# Altium footprint library Rich Footprints.PcbLib: 155 footprints (part 5 of 10)
Each footprint in its own frame and in the unit in brackets; x right, y up, seen from the top. Pads: shape width x height; smd on the part's side, far side on the other; paste and mask are expansions set on the pad; w line width, h text height; cw(c..) or ccw(c..) is an arc to the next point about the centre after c.
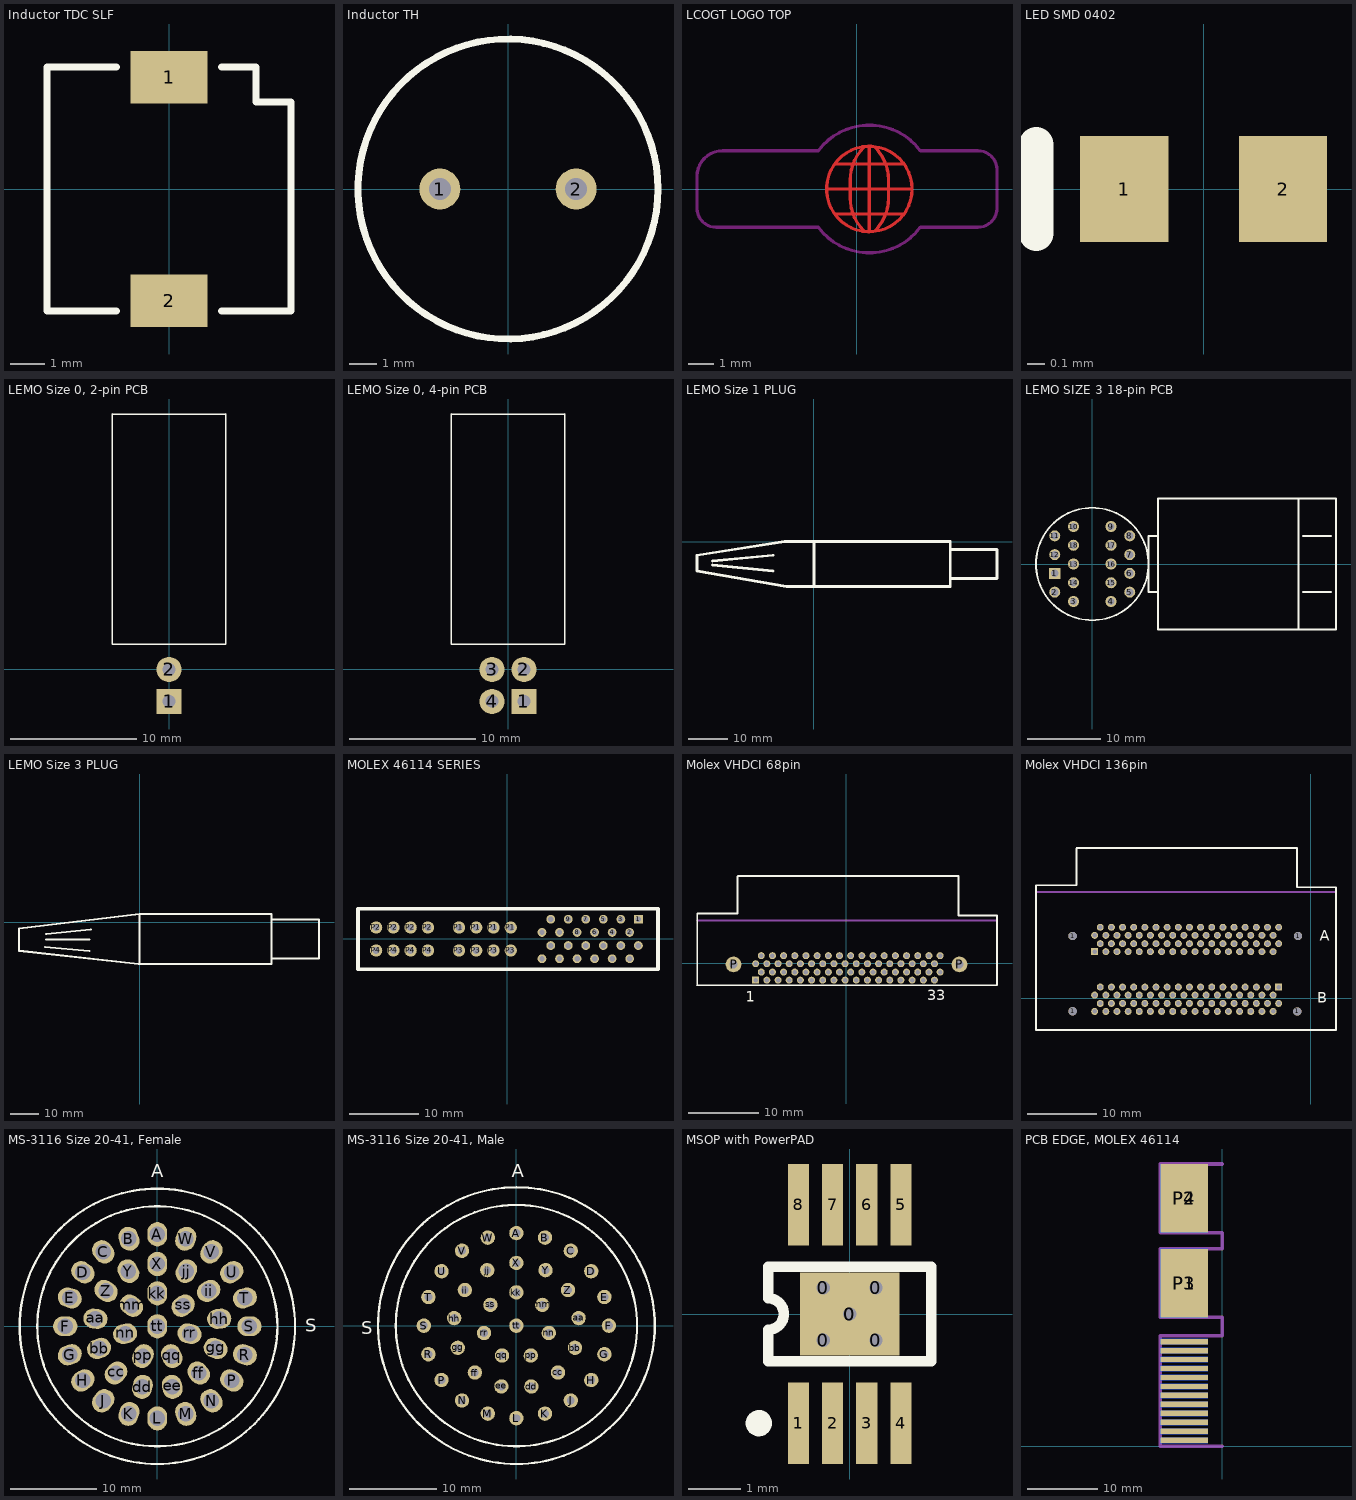
[diagram p4: the footprints below, top view; thin cyan lines are the x and y axes]

## Inductor TDC SLF [mm] "SLF series"
pads (2):
  rect 2.2x1.5 smd: 1(0,3.2) 2(0,-3.2)
Top Overlay:
  lines w0.2: -1.5,-3.5 -3.5,-3.5 -3.5,3.5 -1.5,3.5 ; 1.5,-3.5 3.5,-3.5 3.5,0 3.5,2.5 2.5,2.5 2.5,3.5 1.5,3.5

## Inductor TH [mm] "11.2 mm DIA, 5 mm lead spacing"
pads (2):
  round 1.5 hole 0.8: 1(-2.5,0) 2(2.5,0)
Top Overlay:
  circle w0.254: c0,0 r5.504

## LCOGT LOGO TOP [mm]
Top Layer:
  circle w0.127: c0.508,0 r1.702
  lines w0.127: -1.194,0 2.21,0 ; -0.864,-0.991 1.88,-0.991 ; -0.864,0.991 1.88,0.991 ; 0.279,-1.651 cw(c1.567,-0.363) -0.254,-0.363 -0.254,0 -0.254,0.363 cw(c1.567,0.363) 0.279,1.651 ; 0.508,-1.702 0.508,1.702 0.584,1.702 ; 0.737,-1.651 ccw(c-0.551,-0.363) 1.27,-0.363 1.27,0 1.27,0.363 ccw(c-0.551,0.363) 0.737,1.651
  text "LCOGT" at -5.639,-0.787 h2.54
  text ".n e t" at 2.286,-0.762 h1.27
Top Layer keep-out:
  lines w0.127: -6.35,-0.762 ccw(c-5.588,-0.762) -5.588,-1.524 -1.524,-1.524 ccw(c0.508,0) 2.54,-1.524 4.826,-1.524 ccw(c4.826,-0.762) 5.588,-0.762 5.588,0.762 ccw(c4.826,0.762) 4.826,1.524 2.54,1.524 ccw(c0.508,0) -1.524,1.524 -5.334,1.524 ccw(c-5.334,0.508) -6.35,0.508 -6.35,0 -6.35,-0.762
Top Solder:
  circle w0.254: c0.508,0 r1.905
  circle w0.762: c0.508,0 r2.185
  lines w0.127: -1.27,-1.524 -5.588,-1.524 cw(c-5.588,-0.762) -6.35,-0.762 -6.35,0.508 cw(c-5.334,0.508) -5.334,1.524 -1.27,1.524 ; -1.168,-1.854 ccw(c0.303,-0.382) 0.303,-2.464 0.508,-2.464 0.713,-2.464 ccw(c0.713,-0.382) 2.184,-1.854 ; -1.168,1.854 cw(c0.303,0.382) 0.303,2.464 0.508,2.464 0.713,2.464 cw(c0.713,0.382) 2.184,1.854 ; 2.286,-1.524 3.048,-1.524 ; 2.286,1.524 3.81,1.524 ; 2.997,-1.524 4.826,-1.524 ccw(c4.826,-0.762) 5.588,-0.762 5.588,0.762 ccw(c4.826,0.762) 4.826,1.524 3.766,1.524
  lines w1.016: -2.54,-0.508 -5.08,-0.508 -5.08,0.254 -1.778,0.254 -1.778,-1.016 -5.588,-1.016 cw(c-5.588,-0.762) -5.842,-0.762 -5.842,0.508 cw(c-5.334,0.508) -5.334,1.016 -1.524,1.016 ; 2.794,1.016 4.826,1.016 cw(c4.826,0.762) 5.08,0.762 5.08,-0.762 cw(c4.826,-0.762) 4.826,-1.016 2.794,-1.016 2.794,0.254 4.318,0.254 4.318,-0.254 3.556,-0.254
  text "LCOGT" at -5.639,-0.787 h2.54

## LED SMD 0402 [mm] "Chip Capacitor; Body 1.0 x 0.5 mm (LxW typ)"
height 1.35
pads (2):
  rect 0.5x0.6 smd: 1(-0.45,0) 2(0.45,0)
Top Overlay:
  lines w0.2: -0.95,-0.25 -0.95,0.25

## LEMO Size 0, 2-pin PCB [mm]
pads (2):
  rect 2x2 hole 1 paste-0.152 mask-0.089: 1(0,-2.54)
  round 2 hole 1 paste-0.152 mask-0.089: 2(0,0)
Top Overlay:
  lines w0.127: -4.5,20.3 4.5,20.3 ; -4.5,20.32 -4.5,2 4.5,2 4.5,20.32

## LEMO Size 0, 4-pin PCB [mm]
pads (4):
  rect 2x2 hole 1 paste-0.152 mask-0.089: 1(1.27,-2.54)
  round 2 hole 1 paste-0.152 mask-0.089: 2(1.27,0) 3(-1.27,0) 4(-1.27,-2.54)
Top Overlay:
  lines w0.127: -4.5,20.3 4.5,20.3 ; -4.5,20.32 -4.5,2 4.5,2 4.5,20.32

## LEMO Size 1 PLUG [mm]
Top Overlay:
  lines w0.75: -26,-6 -10.5,-7.5 ; -26,-5 -10.5,-3.5 ; 35,-9.5 47,-9.5 47,-2 35,-2 ; 0,-11.5 -7,-11.5 -30,-7.5 -30,-3.5 -7.5,0 0,0 ; 0,-11.5 0,0 ; 0,-11.5 35,-11.5 35,0 0,0

## LEMO SIZE 3 18-pin PCB [mm]
pads (18):
  rect 1.5x1.5 hole 1: 1(-5.08,-1.27)
  round 1.5 hole 1: 2(-5.08,-3.81) 3(-2.54,-5.08) 4(2.54,-5.08) 5(5.08,-3.81) 6(5.08,-1.27) 7(5.08,1.27) 8(5.08,3.81) 9(2.54,5.08) 10(-2.54,5.08) 11(-5.08,3.81) 12(-5.08,1.27) 13(-2.54,0) 14(-2.54,-2.54) 15(2.54,-2.54) 16(2.54,0) 17(2.54,2.54) 18(-2.54,2.54)
Top Overlay:
  circle w0.254: c0,0 r7.62
  lines w0.254: 27.94,8.89 27.94,-8.89 33.02,-8.89 ; 28.575,-3.81 32.385,-3.81 ; 28.575,3.81 32.385,3.81 ; 8.89,-3.81 8.89,3.81 ; 8.89,-3.81 8.89,-8.89 33.02,-8.89 ; 8.89,-3.81 7.62,-3.81 7.62,3.81 8.89,3.81 ; 8.89,3.81 8.89,8.89 33.02,8.89 33.02,-7.62 33.02,-8.89

## LEMO Size 3 PLUG [mm]
Top Overlay:
  lines w0.75: -42,-2.589 -42,-9.87 ; -33,-8.5 -17.5,-10 ; -32.5,-6 -17.5,-6 ; -32.5,-4 -17,-2.5 ; -0.316,-14.532 -42,-9.87 ; 46,-12.5 62.5,-12.5 62.5,1 47.5,1 46,1 ; -42,-9.87 -42,-2.16 0,3 ; 0,3 0,-14.5 46,-14.5 46,3 0,3

## MOLEX 46114 SERIES [mil] "VERT MOUNT PCB"
pads (40):
  rect 50x50 hole 31 paste-6 mask-3.5: 1(747.86,112.5)
  round 50 hole 31 paste-6 mask-3.5: 2(697.86,37.5) 3(647.86,112.5) 4(597.86,37.5) 5(547.86,112.5) 6(497.86,37.5) 7(447.86,112.5) 8(397.86,37.5) 9(347.86,112.5) 10(297.86,37.5) 11(247.86,112.5) 12(197.86,37.5) 13(747.86,-37.5) 14(697.86,-112.5) 15(647.86,-37.5) 16(597.86,-112.5) 17(547.86,-37.5) 18(497.86,-112.5) 19(447.86,-37.5) 20(397.86,-112.5) 21(347.86,-37.5) 22(297.86,-112.5) 23(247.86,-37.5) 24(197.86,-112.5)
  round 70 hole 40 paste-6 mask-3.5: P1(-275.42,65.5) P1(-176.99,65.5) P1(-78.57,65.5) P1(19.86,65.5) P2(-747.86,65.5) P2(-649.43,65.5) P2(-551.01,65.5) P2(-452.58,65.5) P3(-275.42,-65.6) P3(-176.99,-65.6) P3(-78.57,-65.6) P3(19.86,-65.6) P4(-747.86,-65.6) P4(-649.43,-65.6) P4(-551.01,-65.6) P4(-452.58,-65.6)
Top Overlay:
  lines w20: -851.24,-173.6 -851.24,173.4 859.53,173.4 859.53,-173.6 -851.24,-173.6

## Molex VHDCI 68pin [mm]
pads (70):
  round 1 hole 0.65: 0(-1.8,-0.09) 2(-12.2,-1.29) 3(-11.4,-2.44) 4(-10.6,-1.29) 5(-9.8,-2.44) 6(-9,-1.29) 7(-8.2,-2.44) 8(-7.4,-1.29) 9(-6.6,-2.44) 10(-5.8,-1.29) 11(-5,-2.44) 12(-4.2,-1.29) 13(-3.4,-2.44) 14(-2.6,-1.29) 15(-1.8,-2.44) 16(-1,-1.29) 17(-0.2,-2.44) 18(0.6,-1.29) 19(1.4,-2.44) 20(2.2,-1.29) 21(3,-2.44) 22(3.8,-1.29) 23(4.6,-2.44) 24(5.4,-1.29) 25(6.2,-2.44) 26(7,-1.29) 27(7.8,-2.44) 28(8.6,-1.29) 29(9.4,-2.44) 30(10.2,-1.29) 31(11,-2.44) 32(11.8,-1.29) 33(12.6,-2.44) 34(13.4,-1.29) 35(-13,-0.09) 36(-12.2,1.06) 37(-11.4,-0.09) 38(-10.6,1.06) 39(-9.8,-0.09) 40(-9,1.06) 41(-8.2,-0.09) 42(-7.4,1.06) 43(-6.6,-0.09) 44(-5.8,1.06) 45(-5,-0.09) 46(-4.2,1.06) 47(-3.4,-0.09) 48(-2.6,1.06) 50(-1,1.06) 51(-0.2,-0.09) 52(0.6,1.06) 53(1.4,-0.09) 54(2.2,1.06) 55(3,-0.09) 56(3.8,1.06) 57(4.6,-0.09) 58(5.4,1.06) 59(6.2,-0.09) 60(7,1.06) 61(7.8,-0.09) 62(8.6,1.06) 63(9.4,-0.09) 64(10.2,1.06) 65(11,-0.09) 66(11.8,1.06) 67(12.6,-0.09) 68(13.4,1.06)
  rect 1x1 hole 0.65: 1(-13,-2.44)
  round 2.25 hole 1.2: P(-16.17,-0.19) P(16.18,-0.19)
Top Overlay:
  lines w0.254: -21.4,-3.16 21.55,-3.16 21.55,6.85 21.5,6.8 16.05,6.8 16.05,12.45 -15.55,12.45 -15.6,12.4 -15.6,7.1 ; -21.35,-3.05 -21.35,7.1 -15.6,7.1 ; -15.6,7.1 -15.6,7.1
  text "1" at -14.45,-5.55 h1.52
  text "33" at 11.55,-5.35 h1.52
Mechanical 1:
  lines w0.254: -21.35,6.11 -16.12,6.11 ; -16.17,6.11 21.55,6.11
  text "PCB edge" at -5.2,4.45 h1

## Molex VHDCI 136pin [mm]
pads (140):
  round 1.2 hole 1.2: 1(-34.2,-1.9) 1(-34.2,8.9) 1(-1.95,-1.93) 1(-1.85,8.9)
  rect 1x1 hole 0.65: 1A(-31.03,6.65) 1B(-4.63,1.57)
  round 1 hole 0.65: 2A(-30.23,7.8) 2B(-5.43,0.42) 3A(-29.43,6.65) 3B(-6.23,1.57) 4A(-28.63,7.8) 4B(-7.03,0.42) 5A(-27.83,6.65) 5B(-7.83,1.57) 6A(-27.03,7.8) 6B(-8.63,0.42) 7A(-26.23,6.65) 7B(-9.43,1.57) 8A(-25.43,7.8) 8B(-10.23,0.42) 9A(-24.63,6.65) 9B(-11.03,1.57) 10A(-23.83,7.8) 10B(-11.83,0.42) 11A(-23.03,6.65) 11B(-12.63,1.57) 12A(-22.23,7.8) 12B(-13.43,0.42) 13A(-21.43,6.65) 13B(-14.23,1.57) 14A(-20.63,7.8) 14B(-15.03,0.42) 15A(-19.83,6.65) 15B(-15.83,1.57) 16A(-19.03,7.8) 16B(-16.63,0.42) 17A(-18.23,6.65) 17B(-17.43,1.57) 18A(-17.43,7.8) 18B(-18.23,0.42) 19A(-16.63,6.65) 19B(-19.03,1.57) 20A(-15.83,7.8) 20B(-19.83,0.42) 21A(-15.03,6.65) 21B(-20.63,1.57) 22A(-14.23,7.8) 22B(-21.43,0.42) 23A(-13.43,6.65) 23B(-22.23,1.57) 24A(-12.63,7.8) 24B(-23.03,0.42) 25A(-11.83,6.65) 25B(-23.83,1.57) 26A(-11.03,7.8) 26B(-24.63,0.42) 27A(-10.23,6.65) 27B(-25.43,1.57) 28A(-9.43,7.8) 28B(-26.23,0.42) 29A(-8.63,6.65) 29B(-27.03,1.57) 30A(-7.83,7.8) 30B(-27.83,0.42) 31A(-7.03,6.65) 31B(-28.63,1.57) 32A(-6.23,7.8) 32B(-29.43,0.42) 33A(-5.43,6.65) 33B(-30.23,1.57) 34A(-4.63,7.8) 34B(-31.03,0.42) 35A(-31.03,9) 35B(-4.63,-0.78) 36A(-30.23,10.15) 36B(-5.43,-1.93) 37A(-29.43,9) 37B(-6.23,-0.78) 38A(-28.63,10.15) 38B(-7.03,-1.93) 39A(-27.83,9) 39B(-7.83,-0.78) 40A(-27.03,10.15) 40B(-8.63,-1.93) 41A(-26.23,9) 41B(-9.43,-0.78) 42A(-25.43,10.15) 42B(-10.23,-1.93) 43A(-24.63,9) 43B(-11.03,-0.78) 44A(-23.83,10.15) 44B(-11.83,-1.93) 45A(-23.03,9) 45B(-12.63,-0.78) 46A(-22.23,10.15) 46B(-13.43,-1.93) 47A(-21.43,9) 47B(-14.23,-0.78) 48A(-20.63,10.15) 48B(-15.03,-1.93) 49A(-19.83,9) 49B(-15.83,-0.78) 50A(-19.03,10.15) 50B(-16.63,-1.93) 51A(-18.23,9) 51B(-17.43,-0.78) 52A(-17.43,10.15) 52B(-18.23,-1.93) 53A(-16.63,9) 53B(-19.03,-0.78) 54A(-15.83,10.15) 54B(-19.83,-1.93) 55A(-15.03,9) 55B(-20.63,-0.78) 56A(-14.23,10.15) 56B(-21.43,-1.93) 57A(-13.43,9) 57B(-22.23,-0.78) 58A(-12.63,10.15) 58B(-23.03,-1.93) 59A(-11.83,9) 59B(-23.83,-0.78) 60A(-11.03,10.15) 60B(-24.63,-1.93) 61A(-10.23,9) 61B(-25.43,-0.78) 62A(-9.43,10.15) 62B(-26.23,-1.93) 63A(-8.63,9) 63B(-27.03,-0.78) 64A(-7.83,10.15) 64B(-27.83,-1.93) 65A(-7.03,9) 65B(-28.63,-0.78) 66A(-6.23,10.15) 66B(-29.43,-1.93) 67A(-5.43,9) 67B(-30.23,-0.78) 68A(-4.63,10.15) 68B(-31.03,-1.93)
Top Overlay:
  lines w0.254: -33.63,16.19 -39.45,16.19 -39.45,-4.6 3.6,-4.6 3.6,15.9 -1.98,15.9 -1.98,21.54 -33.58,21.54 -33.63,21.49 -33.63,16.19 ; -33.63,16.19 -33.63,16.19
  text "B" at 0.9,-0.65 h1.52
  text "A" at 1.3,8.25 h1.52
Mechanical 1:
  lines w0.254: -39.38,15.2 -34.15,15.2 ; -34.2,15.2 3.52,15.2
  text "PCB edge" at -23.23,13.54 h1

## MS-3116 Size 20-41, Female [mil] "Round Size 20, 41 POS, Female sockets"
pads (41):
  oval 90x110 hole 70: A(0,418) kk(0,150) L(0,-418) tt(0,0) X(0,283)
  oval 90x110 hole 70 rot 83.08: aa(-280.94,34.1)
  oval 90x110 hole 70 rot 18: B(-129.17,397.54) M(129.17,-397.54)
  oval 90x110 hole 70 rot 110.77: bb(-264.6,-100.37)
  oval 90x110 hole 70 rot 36: C(-245.69,338.17) N(245.69,-338.17)
  oval 90x110 hole 70 rot 138.46: cc(-187.65,-211.84)
  oval 90x110 hole 70 rot 54: D(-338.17,245.69) P(338.17,-245.69)
  oval 90x110 hole 70 rot 166.16: dd(-67.72,-274.78)
  oval 90x110 hole 70 rot 72: E(-397.54,129.17) R(397.54,-129.17)
  oval 90x110 hole 70 rot 13.85: ee(67.74,-274.77)
  oval 110x90 hole 70: F(-418,0) S(418,0)
  oval 90x110 hole 70 rot 41.54: ff(187.67,-211.82)
  oval 90x110 hole 70 rot 108: G(-397.54,-129.17) T(397.54,129.17)
  oval 90x110 hole 70 rot 69.23: gg(264.61,-100.35)
  oval 90x110 hole 70 rot 126: H(-338.17,-245.69) U(338.17,245.69)
  oval 90x110 hole 70 rot 96.92: hh(280.94,34.12)
  oval 90x110 hole 70 rot 124.62: ii(232.9,160.76)
  oval 90x110 hole 70 rot 144: J(-245.69,-338.17) V(245.69,338.17)
  oval 90x110 hole 70 rot 152.31: jj(131.52,250.58)
  oval 90x110 hole 70 rot 162: K(-129.17,-397.54) W(129.17,397.54)
  oval 90x110 hole 70 rot 51.43: mm(-117.28,93.52)
  oval 90x110 hole 70 rot 102.86: nn(-146.24,-33.39)
  oval 90x110 hole 70 rot 154.29: pp(-65.08,-135.15)
  oval 90x110 hole 70 rot 25.72: qq(65.09,-135.14)
  oval 90x110 hole 70 rot 77.14: rr(146.24,-33.38)
  oval 90x110 hole 70 rot 128.57: ss(117.27,93.52)
  oval 90x110 hole 70 rot 27.7: Y(-131.53,250.58)
  oval 90x110 hole 70 rot 55.39: Z(-232.91,160.75)
Top Overlay:
  circle w10: c0,0 r545.01
  circle w10: c0,0 r625.05
  text "A" at -27,677 h60
  text "S" at 671,-25 h60

## MS-3116 Size 20-41, Male [mil] "Round Size 20, 41 pos, Male Pins"
pads (41):
  round 65 hole 35: A(0,418) aa(280.94,34.1) B(129.17,397.54) bb(264.6,-100.37) C(245.69,338.17) cc(187.65,-211.84) D(338.17,245.69) dd(67.72,-274.78) E(397.54,129.17) ee(-67.74,-274.77) F(418,0) ff(-187.67,-211.82) G(397.54,-129.17) gg(-264.61,-100.35) H(338.17,-245.69) hh(-280.94,34.12) ii(-232.9,160.76) J(245.69,-338.17) jj(-131.52,250.58) K(129.17,-397.54) kk(0,150) L(0,-418) M(-129.17,-397.54) mm(117.28,93.52) N(-245.69,-338.17) nn(146.24,-33.39) P(-338.17,-245.69) pp(65.08,-135.15) qq(-65.09,-135.14) R(-397.54,-129.17) rr(-146.24,-33.38) S(-418,0) ss(-117.27,93.52) T(-397.54,129.17) tt(0,0) U(-338.17,245.69) V(-245.69,338.17) W(-129.17,397.54) X(0,283) Y(131.53,250.58) Z(232.91,160.75)
Top Overlay:
  circle w10: c0,0 r625.05
  circle w10: c0,0 r545.01
  text "A" at -20.94,670 h60
  text "S" at -700.94,-40 h60

## MSOP with PowerPAD [mm] "Shrink Small Outline, MSOP; 8 Leads; Body Width 3 mm; Pitch 0.65 mm"
height 1.1
pads (14):
  round 0.508 hole 0.254 paste+0 mask+0: 0(-0.5,-0.5) 0(-0.5,0.5) 0(0,0) 0(0.5,-0.5) 0(0.5,0.5)
  rect 1.89x1.57 smd: 0(0,0)
  rect 0.4x1.55 smd: 1(-0.975,-2.075) 2(-0.325,-2.075) 3(0.325,-2.075) 4(0.975,-2.075) 5(0.975,2.075) 6(0.325,2.075) 7(-0.325,2.075) 8(-0.975,2.075)
Top Overlay:
  circle w0.25: c-1.725,-2.075 r0.125
  lines w0.2: -1.55,-0.9 -1.55,-0.3 ccw(c-1.55,0) -1.55,0.3 -1.55,0.9 1.55,0.9 1.55,-0.9 -1.55,-0.9
Top Paste:
  region: 0.95,0.79 -0.94,0.79 -0.94,-0.78 0.95,-0.78

## PCB EDGE, MOLEX 46114 [mil] "Mates with Molex 46114-4241"
pads (28):
  rect 264x383 smd far side paste-6 mask-3.5: P1(-213,908) P2(-213,1380.5)
  rect 264x383 smd paste-6 mask-3.5: P3(-213,908) P4(-213,1380.5)
  rect 264x30 smd far side paste-6 mask-3.5: S1(-213,32.5) S2(-213,82.5) S3(-213,132.5) S4(-213,182.5) S5(-213,232.5) S6(-213,282.5) S7(-213,332.5) S8(-213,382.5) S9(-213,432.5) S10(-213,482.5) S11(-213,532.5) S12(-213,582.5)
  rect 264x30 smd paste-6 mask-3.5: S13(-213,32.5) S14(-213,82.5) S15(-213,132.5) S16(-213,182.5) S17(-213,232.5) S18(-213,282.5) S19(-213,332.5) S20(-213,382.5) S21(-213,432.5) S22(-213,482.5) S23(-213,532.5) S24(-213,582.5)
Mechanical 1:
  lines w20: 0,0 -345,0 -345,615 0,615 0,717 -345,717 -345,1100 0,1100 0,1189 -345,1189 -345,1572 0,1572